# Altium footprint library M2.PCBLIB: 7 footprints
Each footprint in its own frame and in the unit in brackets; x right, y up, seen from the top. Pads: shape width x height; smd on the part's side, far side on the other; paste and mask are expansions set on the pad; w line width, h text height; cw(c..) or ccw(c..) is an arc to the next point about the centre after c.
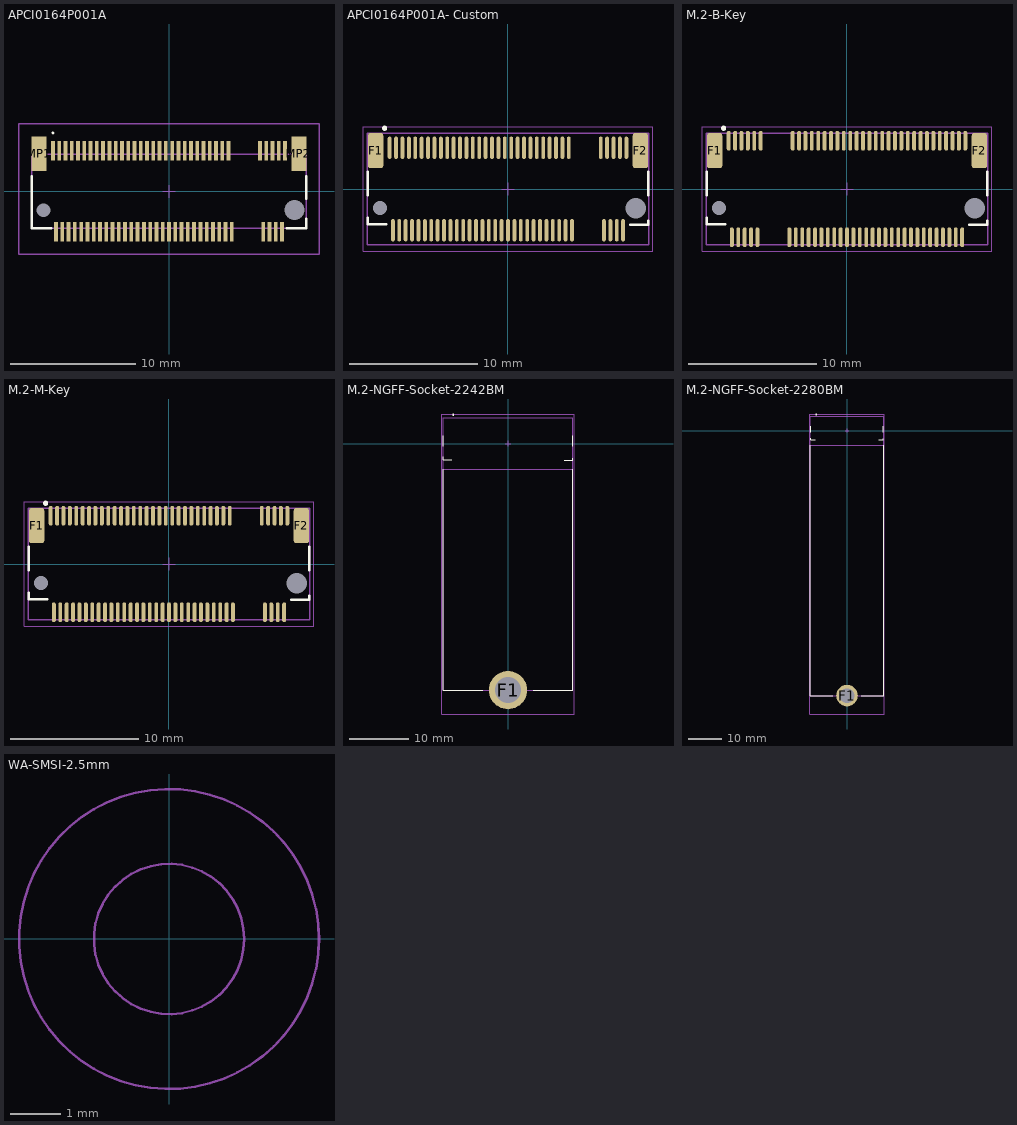
[diagram p0: the footprints below, top view; thin cyan lines are the x and y axes]

## APCI0164P001A [mm]
pads (71):
  rect 0.3x1.55 smd: 1(-9.25,3.225) 2(-9,-3.225) 3(-8.75,3.225) 4(-8.5,-3.225) 5(-8.25,3.225) 6(-8,-3.225) 7(-7.75,3.225) 8(-7.5,-3.225) 9(-7.25,3.225) 10(-7,-3.225) 11(-6.75,3.225) 12(-6.5,-3.225) 13(-6.25,3.225) 14(-6,-3.225) 15(-5.75,3.225) 16(-5.5,-3.225) 17(-5.25,3.225) 18(-5,-3.225) 19(-4.75,3.225) 20(-4.5,-3.225) 21(-4.25,3.225) 22(-4,-3.225) 23(-3.75,3.225) 24(-3.5,-3.225) 25(-3.25,3.225) 26(-3,-3.225) 27(-2.75,3.225) 28(-2.5,-3.225) 29(-2.25,3.225) 30(-2,-3.225) 31(-1.75,3.225) 32(-1.5,-3.225) 33(-1.25,3.225) 34(-1,-3.225) 35(-0.75,3.225) 36(-0.5,-3.225) 37(-0.25,3.225) 38(0,-3.225) 39(0.25,3.225) 40(0.5,-3.225) 41(0.75,3.225) 42(1,-3.225) 43(1.25,3.225) 44(1.5,-3.225) 45(1.75,3.225) 46(2,-3.225) 47(2.25,3.225) 48(2.5,-3.225) 49(2.75,3.225) 50(3,-3.225) 51(3.25,3.225) 52(3.5,-3.225) 53(3.75,3.225) 54(4,-3.225) 55(4.25,3.225) 56(4.5,-3.225) 57(4.75,3.225) 58(5,-3.225) 67(7.25,3.225) 68(7.5,-3.225) 69(7.75,3.225) 70(8,-3.225) 71(8.25,3.225) 72(8.5,-3.225) 73(8.75,3.225) 74(9,-3.225) 75(9.25,3.225)
  round 0.55 hole 1.1 unplated: MH1(-10,-1.5)
  round 0.8 hole 1.6 unplated: MH2(10,-1.5)
  rect 1.2x2.75 smd: MP1(-10.35,3) MP2(10.35,3)
Top Overlay:
  lines w0.1: -9.25,4.6 ccw(c-9.25,4.65) -9.25,4.7 ccw(c-9.25,4.65) -9.25,4.6
  lines w0.2: -10.925,1.2 -10.925,-2.95 -9.4,-2.95 ; 9.4,-2.95 10.925,-2.95 10.925,-2.2 ; 10.925,-0.6 10.925,1.2
Top Assembly:
  lines w0.1: -10.925,-2.95 10.925,-2.95 10.925,2.95 -10.925,2.95 -10.925,-2.95
Top Courtyard:
  lines w0.1: -11.95,-5 11.95,-5 ; -11.95,-5 -11.95,5.375 ; -11.95,-5 11.95,-5 ; -11.95,-5 -11.95,5.375 ; -11.95,5.375 11.95,5.375 ; -11.95,5.375 11.95,5.375 ; 11.95,-5 11.95,5.375 ; 11.95,-5 11.95,5.375
Top Designator:
  text ".Designator" at -4.8,5.9 h1
Top Component Center:
  lines w0.05: -0.5,0 0.5,0 ; 0,-0.5 0,0.5
3D body "APCI0164-P001A.stp": height 8.8, standoff -1.7, extent -10.9,-3.912 10.95,4.313

## APCI0164P001A- Custom [mm]
height 4.2
pads (71):
  oval 0.3x1.75 smd: 1(-9.25,3.225) 2(-9,-3.225) 3(-8.75,3.225) 4(-8.5,-3.225) 5(-8.25,3.225) 6(-8,-3.225) 7(-7.75,3.225) 8(-7.5,-3.225) 9(-7.25,3.225) 10(-7,-3.225) 11(-6.75,3.225) 12(-6.5,-3.225) 13(-6.25,3.225) 14(-6,-3.225) 15(-5.75,3.225) 16(-5.5,-3.225) 17(-5.25,3.225) 18(-5,-3.225) 19(-4.75,3.225) 20(-4.5,-3.225) 21(-4.25,3.225) 22(-4,-3.225) 23(-3.75,3.225) 24(-3.5,-3.225) 25(-3.25,3.225) 26(-3,-3.225) 27(-2.75,3.225) 28(-2.5,-3.225) 29(-2.25,3.225) 30(-2,-3.225) 31(-1.75,3.225) 32(-1.5,-3.225) 33(-1.25,3.225) 34(-1,-3.225) 35(-0.75,3.225) 36(-0.5,-3.225) 37(-0.25,3.225) 38(0,-3.225) 39(0.25,3.225) 40(0.5,-3.225) 41(0.75,3.225) 42(1,-3.225) 43(1.25,3.225) 44(1.5,-3.225) 45(1.75,3.225) 46(2,-3.225) 47(2.25,3.225) 48(2.5,-3.225) 49(2.75,3.225) 50(3,-3.225) 51(3.25,3.225) 52(3.5,-3.225) 53(3.75,3.225) 54(4,-3.225) 55(4.25,3.225) 56(4.5,-3.225) 57(4.75,3.225) 58(5,-3.225) 67(7.25,3.225) 68(7.5,-3.225) 69(7.75,3.225) 70(8,-3.225) 71(8.25,3.225) 72(8.5,-3.225) 73(8.75,3.225) 74(9,-3.225) 75(9.25,3.225)
  rrect33% 1.2x2.75 smd: F1(-10.35,3) F2(10.35,3)
  round 0 hole 1.1 unplated: H1(-10,-1.5)
  round 0 hole 1.6 unplated: H2(10,-1.5)
Top Overlay:
  circle w0.2: c-9.65,4.75 r0.1
  lines w0.2: -10.95,-2.25 -10.95,-2.75 -9.5,-2.75 ; -10.95,-0.5 -10.95,1.35 ; 9.55,-2.8 10.97,-2.8 10.97,-2.5 ; 10.97,-0.5 10.97,1.35
Top Assembly:
  lines w0.1: -11,-4.35 11,-4.35 11,4.35 -11,4.35 -11,-4.35
  text "75" at 7.5,3 h1
  text "1" at -9.25,3 h1
  text "2" at -9.25,-4 h1
  text "74" at 7.5,-3.775 h1
Top Courtyard:
  lines w0.05: -11.3,-4.85 11.3,-4.85 11.3,4.85 -11.3,4.85 -11.3,-4.85
Top Designator:
  text ".Designator" at -0.5,-0.5 h1
Top Component Center:
  lines w0.05: -0.5,0 0.5,0 ; 0,-0.5 0,0.5
3D body "APCI0164-P001A.stp": height 8.8, standoff -1.7, extent -10.925,-3.97 10.925,4.255

## M.2-B-Key [mm]
height 4.2
pads (71):
  oval 0.3x1.55 smd: 1(-9.25,3.775) 2(-9,-3.775) 3(-8.75,3.775) 4(-8.5,-3.775) 5(-8.25,3.775) 6(-8,-3.775) 7(-7.75,3.775) 8(-7.5,-3.775) 9(-7.25,3.775) 10(-7,-3.775) 11(-6.75,3.775) 20(-4.5,-3.775) 21(-4.25,3.775) 22(-4,-3.775) 23(-3.75,3.775) 24(-3.5,-3.775) 25(-3.25,3.775) 26(-3,-3.775) 27(-2.75,3.775) 28(-2.5,-3.775) 29(-2.25,3.775) 30(-2,-3.775) 31(-1.75,3.775) 32(-1.5,-3.775) 33(-1.25,3.775) 34(-1,-3.775) 35(-0.75,3.775) 36(-0.5,-3.775) 37(-0.25,3.775) 38(0,-3.775) 39(0.25,3.775) 40(0.5,-3.775) 41(0.75,3.775) 42(1,-3.775) 43(1.25,3.775) 44(1.5,-3.775) 45(1.75,3.775) 46(2,-3.775) 47(2.25,3.775) 48(2.5,-3.775) 49(2.75,3.775) 50(3,-3.775) 51(3.25,3.775) 52(3.5,-3.775) 53(3.75,3.775) 54(4,-3.775) 55(4.25,3.775) 56(4.5,-3.775) 57(4.75,3.775) 58(5,-3.775) 59(5.25,3.775) 60(5.5,-3.775) 61(5.75,3.775) 62(6,-3.775) 63(6.25,3.775) 64(6.5,-3.775) 65(6.75,3.775) 66(7,-3.775) 67(7.25,3.775) 68(7.5,-3.775) 69(7.75,3.775) 70(8,-3.775) 71(8.25,3.775) 72(8.5,-3.775) 73(8.75,3.775) 74(9,-3.775) 75(9.25,3.775)
  rrect33% 1.2x2.75 smd: F1(-10.35,3) F2(10.35,3)
  round 0 hole 1.1 unplated: H1(-10,-1.5)
  round 0 hole 1.6 unplated: H2(10,-1.5)
Top Overlay:
  circle w0.2: c-9.65,4.75 r0.1
  lines w0.2: -10.95,-2.25 -10.95,-2.75 -9.5,-2.75 ; -10.95,-0.5 -10.95,1.35 ; 9.55,-2.8 10.97,-2.8 10.97,-2.5 ; 10.97,-0.5 10.97,1.35
Top Assembly:
  lines w0.1: -11,-4.35 -11,4.35 11,4.35 11,-4.35 -11,-4.35
  text "74" at 7.5,-3.775 h1
  text "2" at -9.25,-4 h1
  text "1" at -9.25,3 h1
  text "75" at 7.5,3 h1
Top Courtyard:
  lines w0.05: -11.3,-4.85 -11.3,4.85 11.3,4.85 11.3,-4.85 -11.3,-4.85
Top Designator:
  text ".Designator" at -0.5,-0.5 h1
Top Component Center:
  lines w0.05: -0.5,0 0.5,0 ; 0,-0.5 0,0.5
3D body "c-2199230-3-b3-3d.stp": height 4.11, standoff -0.59, extent -10.95,-4.35 10.95,4.35

## M.2-M-Key [mm]
height 4.2
pads (71):
  oval 0.3x1.55 smd: 1(-9.25,3.775) 2(-9,-3.775) 3(-8.75,3.775) 4(-8.5,-3.775) 5(-8.25,3.775) 6(-8,-3.775) 7(-7.75,3.775) 8(-7.5,-3.775) 9(-7.25,3.775) 10(-7,-3.775) 11(-6.75,3.775) 12(-6.5,-3.775) 13(-6.25,3.775) 14(-6,-3.775) 15(-5.75,3.775) 16(-5.5,-3.775) 17(-5.25,3.775) 18(-5,-3.775) 19(-4.75,3.775) 20(-4.5,-3.775) 21(-4.25,3.775) 22(-4,-3.775) 23(-3.75,3.775) 24(-3.5,-3.775) 25(-3.25,3.775) 26(-3,-3.775) 27(-2.75,3.775) 28(-2.5,-3.775) 29(-2.25,3.775) 30(-2,-3.775) 31(-1.75,3.775) 32(-1.5,-3.775) 33(-1.25,3.775) 34(-1,-3.775) 35(-0.75,3.775) 36(-0.5,-3.775) 37(-0.25,3.775) 38(0,-3.775) 39(0.25,3.775) 40(0.5,-3.775) 41(0.75,3.775) 42(1,-3.775) 43(1.25,3.775) 44(1.5,-3.775) 45(1.75,3.775) 46(2,-3.775) 47(2.25,3.775) 48(2.5,-3.775) 49(2.75,3.775) 50(3,-3.775) 51(3.25,3.775) 52(3.5,-3.775) 53(3.75,3.775) 54(4,-3.775) 55(4.25,3.775) 56(4.5,-3.775) 57(4.75,3.775) 58(5,-3.775) 67(7.25,3.775) 68(7.5,-3.775) 69(7.75,3.775) 70(8,-3.775) 71(8.25,3.775) 72(8.5,-3.775) 73(8.75,3.775) 74(9,-3.775) 75(9.25,3.775)
  rrect33% 1.2x2.75 smd: F1(-10.35,3) F2(10.35,3)
  round 0 hole 1.1 unplated: H1(-10,-1.5)
  round 0 hole 1.6 unplated: H2(10,-1.5)
Top Overlay:
  circle w0.2: c-9.65,4.75 r0.1
  lines w0.2: -10.95,-2.25 -10.95,-2.75 -9.5,-2.75 ; -10.95,-0.5 -10.95,1.35 ; 9.55,-2.8 10.97,-2.8 10.97,-2.5 ; 10.97,-0.5 10.97,1.35
Top Assembly:
  lines w0.1: -11,-4.35 -11,4.35 11,4.35 11,-4.35 -11,-4.35
  text "74" at 7.5,-3.775 h1
  text "2" at -9.25,-4 h1
  text "1" at -9.25,3 h1
  text "75" at 7.5,3 h1
Top Courtyard:
  lines w0.05: -11.3,-4.85 -11.3,4.85 11.3,4.85 11.3,-4.85 -11.3,-4.85
Top Designator:
  text ".Designator" at -0.5,-0.5 h1
Top Component Center:
  lines w0.05: -0.5,0 0.5,0 ; 0,-0.5 0,0.5
3D body "1-2199230-5.stp": height 4.08, standoff -0.63, extent -10.95,-4.35 10.95,4.35

## M.2-NGFF-Socket-2242BM [mm]
height 3.2
pads (1):
  round 6.5 hole 4.4: F1(0,-41.75)
Top Overlay:
  circle w0.2: c-9.25,4.85 r0.1
  lines w0.2: -11,-4.35 -11,-41.75 -4.25,-41.75 ; -10.95,-2.25 -10.95,-2.75 -9.5,-2.75 ; -10.95,-0.5 -10.95,1.35 ; 4.25,-41.75 11,-41.75 11,-4.35 ; 9.55,-2.8 10.97,-2.8 10.97,-2.5 ; 10.97,-0.5 10.97,1.35
Top Courtyard:
  lines w0.05: -11.25,-45.8 -11.25,5 11.25,5 11.25,-45.8 -11.25,-45.8
Top Designator:
  text ".Designator" at -1.1,-7.4 h1
Top Component Center:
  lines w0.05: -0.5,0 0.5,0 ; 0,-0.5 0,0.5
Top Value (Mech13):
  lines w0.1: -11,-4.35 -11,4.35 11,4.35 11,-4.35 -11,-4.35
  text "75" at 7.5,3 h1
  text "74" at 7.5,-3.775 h1
  text "2" at -9.25,-4 h1
  text "1" at -9.25,3 h1
Mechanical 15:
  lines w0.1: -11,-4.35 -11,-41.75 ; 11,-4.35 11,-41.75 ; -11,-41.75 11,-41.75 ; -11,-41.75 11,-41.75
  text "TYPE 2242-xx-B-M" at -10.25,-41.55 h0.5

## M.2-NGFF-Socket-2280BM [mm]
height 3.2
pads (1):
  round 6.5 hole 4.4: F1(0,-79.75)
Top Overlay:
  circle w0.2: c-9.25,4.85 r0.1
  lines w0.2: -11,-4.35 -11,-79.75 -4.25,-79.75 ; -10.95,-2.25 -10.95,-2.75 -9.5,-2.75 ; -10.95,-0.5 -10.95,1.35 ; 4.25,-79.75 11,-79.75 11,-4.35 ; 9.55,-2.8 10.97,-2.8 10.97,-2.5 ; 10.97,-0.5 10.97,1.35
Top Assembly:
  lines w0.1: -11,-4.35 -11,4.35 11,4.35 11,-4.35 -11,-4.35
  text "75" at 7.5,3 h1
  text "74" at 7.5,-3.775 h1
  text "2" at -9.25,-4 h1
  text "1" at -9.25,3 h1
Top Courtyard:
  lines w0.05: -11.25,-85.3 11.25,-85.3 11.25,5 -11.25,5 -11.25,-85.3
Top Designator:
  text ".Designator" at -1.4,-8.2 h1
Top Component Center:
  lines w0.05: -0.5,0 0.5,0 ; 0,-0.5 0,0.5
Mechanical 15:
  lines w0.1: -11,-4.35 -11,-79.75 11,-79.75 11,-4.35
  text "TYPE 2280-xx-B-M" at -10.25,-79.55 h0.5

## WA-SMSI-2.5mm [mm]
height 2.5
Top Assembly:
  circle w0.05: c0,0 r2.994
  circle w0.05: c0,0 r1.5
Top Designator:
  text ".Designator" at -0.5,-0.5 h1
3D body "9774025360 (rev1).stp": height 2.5, standoff -1.4, extent -3,-3 3,3